# Altium schematic symbol library SPX1117M3-L-3-3_TR.SchLib: 1 symbol
Pins are listed as number, name and electrical type; pins without a type are passive.

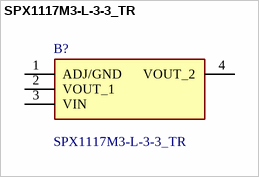
[diagram p0: symbol SPX1117M3-L-3-3_TR]

## SPX1117M3-L-3-3_TR
designator B?
LDO Regulator 3.3V 800mA 2.6-15V TO263-3; Manufacturer_Name: EXAR; Manufacturer_Part_Number: SPX1117M3-L-3-3/TR; Geometry.Height: 1.8mm; Mouser Part Number: 701-SPX1117M3-L-33TR; Mouser Price/Stock: https://www.mouser.com/Search/Refine.aspx?Keyword=701-SPX1117M3-L-33TR; Datasheet Link: https://componentsearchengine.com/Datasheets/1/SPX1117M3-L-3-3_TR.pdf
footprint SOT230P700X180-4N
pins: 1 ADJ/GND, 2 VOUT_1, 3 VIN, 4 VOUT_2